# EAGLE library part SWITCH_320-938 (library ArduinoNano LearningBot 4-21-18)
TOGGLE SWITCH distributor RS Components
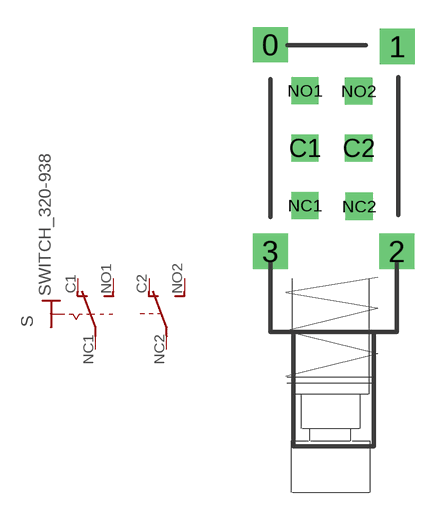
[diagram p1: symbol with the pads of PS22F03; footprint PS22F03]

Designator prefix S; gates 1=SWITCH_KS-U- B=SWITCH_U2

## SWITCH_320-938  [PS22F03]
C1  1:O  pas
C2  B:O  pas
NC1  1:P  pas
NC2  B:P  pas
NO1  1:S  pas
NO2  B:S  pas

## Footprint PS22F03 (pad centres in mm)
drill 1.3 square: 0 -3.175,5.715; 1 3.835,5.613; 2 3.81,-5.715; 3 -3.175,-5.715
drill 1 square: C1 -1.27,0; C2 1.702,0; NC1 -1.27,-3.175; NC2 1.727,-3.226; NO1 -1.27,3.175; NO2 1.702,3.15